# EAGLE library part STS3* (library bschulz)
STS3x - Digital Temperature Sensor Characteristics (for STS35): Vcc: 2.15V ~ 5.5V Temperature Resolution: 0.01°C Temperature Accuracy: 0.1°C Operating Temperature: -40°C to 125°C Digikey: 1649-1063-1-ND (STS-30) <https://www.digikey.com/en/products/detail/sensirion-ag/STS-30-DIS/6194944> 1649-1064-1-ND (STS-31) <https://www.digikey.com/en/products/detail/sensirion-ag/STS-31-DIS/6194945> 1649-1104-1-ND (STS-31) <https://www.digikey.com/en/products/detail/sensirion-ag/STS35-DIS/9172270?s=N4IgTCBcDaIM4Bc4FoDMBWEBdAvkA>
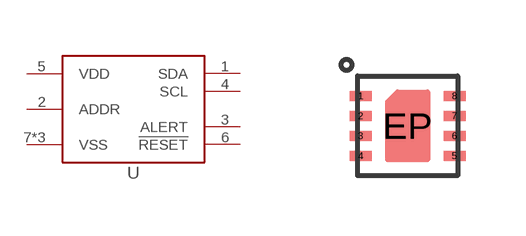
[diagram p181: symbol with the pads of DFN_8_2.5X2.5; footprint DFN_8_2.5X2.5]

Designator prefix U

## STS3DFN (MF: Sensirion), STS30DFN (DIGIKEY: 1649-1063-1-ND; DISP: STS30; MF: Sensirion; MPN: STS-30-DIS), STS31DFN (DIGIKEY: 1649-1064-1-ND; DISP: STS31; MF: Sensirion; MPN: STS-31-DIS), STS35DFN (DIGIKEY: 1649-1104-1-ND; DISP: STS35; MF: Sensirion; MPN: STS-35-DIS)  [DFN_8_2.5X2.5]
1  SDA
2  ADDR  in
3  ALERT  out
4  SCL  in
5  VDD  pwr
6  !RESET  in
7  VSS  pwr
8  VSS  pwr
EP  VSS  pwr

## Footprint DFN_8_2.5X2.5 (pad centres in mm)
DFN Package for SHT3x-DIS (SHT31, SHT35) Ref Datasheet <https://media.digikey.com/pdf/Data%20Sheets/Sensirion%20PDFs/HT_DS_SHT3x_DIS.pdf>
smd 0.55 x 0.25: 1 -1.175,0.75; 2 -1.175,0.25; 3 -1.175,-0.25; 4 -1.175,-0.75; 5 1.175,-0.75; 6 1.175,-0.25; 7 1.175,0.25; 8 1.175,0.75
smd 1 x 1: EP 0,0